# Altium footprint library pcb_Oscillator.PcbLib: 6 footprints
Each footprint in its own frame and in the unit in brackets; x right, y up, seen from the top. Pads: shape width x height; smd on the part's side, far side on the other; paste and mask are expansions set on the pad; w line width, h text height; cw(c..) or ccw(c..) is an arc to the next point about the centre after c.
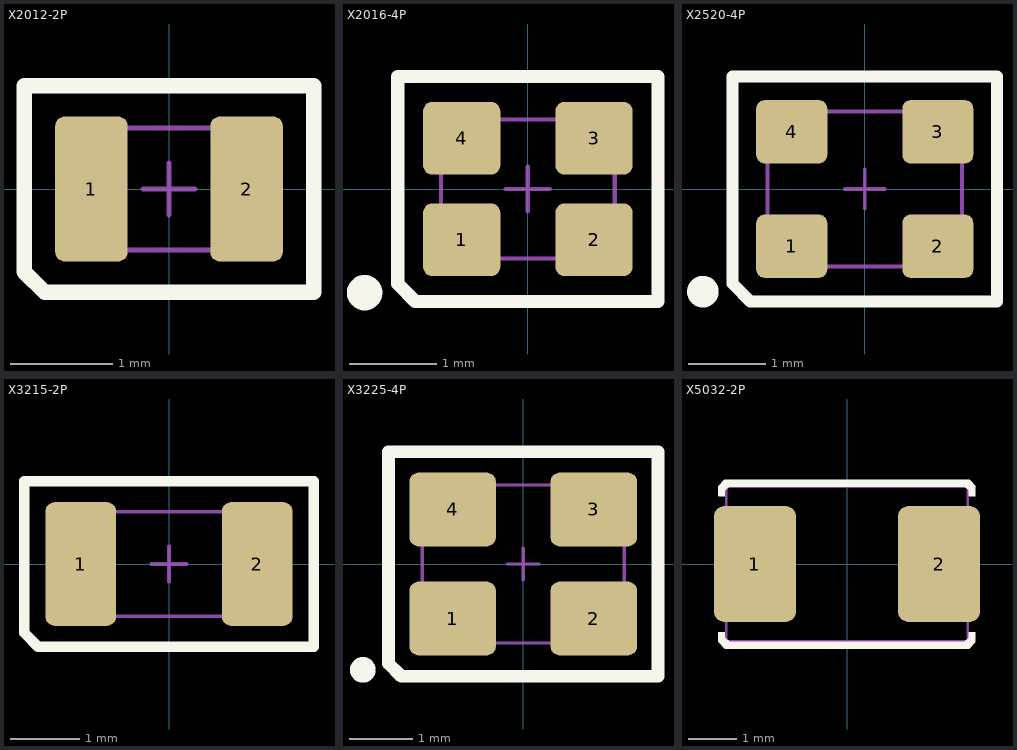
[diagram p0: the footprints below, top view; thin cyan lines are the x and y axes]

## X2012-2P [mil] "FC-12M"
height 25.59
pads (2):
  rrect25% 28x56 smd: 1(-30,0) 2(30,0)
Top Overlay:
  lines w6: -56,-32 -48,-40 56,-40 56,40 -56,40 -56,-32
Mechanical 13:
  lines w2: -10.01,0.01 9.99,0.01 ; 0,-10 0,10 ; -39.37,-23.62 -39.37,23.62 39.37,23.62 39.37,-23.62 -39.37,-23.62
Mechanical 14:
Mechanical 16:
  text ".Designator" at 0,0 h39.37
3D body "FC-12M.STEP": height 23.62, standoff -0.04, extent -40.35,-23.62 40.35,23.62

## X2016-4P [mil]
height 29.53
pads (4):
  rrect25% 35x33 smd: 1(-30,-23) 2(30,-23) 3(30,23) 4(-30,23)
Top Overlay:
  circle w10: c-74,-47 r3
  lines w6: -59,-43 -51,-51 59,-51 59,51 -59,51 -59,-43
Mechanical 13:
  lines w2: -10,-0.01 10,-0.01 ; -0.01,-10 -0.01,10 ; -39.37,-31.5 39.37,-31.5 39.37,31.5 -39.37,31.5 -39.37,-31.5
Mechanical 14:
Mechanical 16:
  text ".Designator" at 0,0 h39.37
3D body "User Library-NT2016SA-END4910A-48MHZ Crystal (NDK).STEP": height 27.56, standoff -0.04, extent -39.37,-31.5 39.37,31.49

## X2520-4P [mil]
height 29.53
pads (4):
  rrect25% 36x32 smd: 1(-37,-29) 2(37,-29) 3(37,29) 4(-37,29)
Top Overlay:
  circle w10: c-82,-52 r3
  lines w6: -67,-48 -58,-57 67,-57 67,57 -67,57 -67,-48
Mechanical 13:
  lines w2: -10,-0.01 10,-0.01 ; -0.01,-10 -0.01,10 ; -49.22,-39.37 -49.22,39.36 49.21,39.36 49.21,-39.37 -49.22,-39.37
Mechanical 16:
  text ".Designator" at 0,0 h39.37
3D body "User Library-Osc KC2520.STEP": height 31.1, standoff 0, extent -49.21,-39.37 49.21,39.37

## X3215-2P [mil]
height 25.59
pads (2):
  rrect25% 40x70 smd: 1(-50,0) 2(50,0)
Top Overlay:
  lines w6: -82,-39 -74,-47 82,-47 82,47 -82,47 -82,-39
Mechanical 13:
  lines w2: -10,0.01 10,0.01 ; 0.01,-10 0.01,10 ; -63,-29.51 -63,29.53 62.99,29.53 62.99,-29.51 -63,-29.51
Mechanical 16:
  text ".Designator" at 0,0 h39.37
3D body "User Library-ECX-31B.STEP": height 35.43, standoff 0, extent -63,-29.51 62.99,29.55

## X3225-4P [mil]
height 47.24
pads (4):
  rrect25% 54x46 smd mask+4: 1(-44,-34) 2(44,-34) 3(44,34) 4(-44,34)
Top Overlay:
  circle w10: c-100,-66 r3
  lines w8: -84,-62 -84,70 84,70 84,-70 -76,-70 -84,-62
Mechanical 13:
  lines w2: -10,0.01 10,0.01 ; 0.01,-10 0.01,10 ; -63,-49.21 62.99,-49.21 62.99,49.21 -63,49.21 -63,-49.21
Mechanical 16:
  text ".Designator" at 0,0 h39.37
3D body "User Library-SG310.STEP": height 41.34, standoff 0, extent -62.98,-49.21 63,49.21

## X5032-2P [mm]
height 1.2
pads (2):
  rrect25% 1.7x2.4 smd: 1(-1.905,0) 2(1.905,0)
Top Overlay:
  region: 2.654,-1.41 2.527,-1.41 2.527,-1.524 2.438,-1.613 -2.438,-1.613 -2.527,-1.524 -2.527,-1.41 -2.654,-1.41 -2.654,-1.613 -2.527,-1.74 2.527,-1.74 2.654,-1.613
  region: -2.654,1.41 -2.527,1.41 -2.527,1.524 -2.438,1.613 2.438,1.613 2.527,1.524 2.527,1.41 2.654,1.41 2.654,1.613 2.527,1.74 -2.527,1.74 -2.654,1.613
  lines w0.025: -2.654,-1.613 -2.527,-1.74 2.527,-1.74 2.654,-1.613 2.654,-1.41 2.527,-1.41 2.527,-1.524 2.438,-1.613 -2.438,-1.613 -2.527,-1.524 -2.527,-1.41 -2.654,-1.41 -2.654,-1.613 ; -2.654,1.41 -2.527,1.41 -2.527,1.524 -2.438,1.613 2.438,1.613 2.527,1.524 2.527,1.41 2.654,1.41 2.654,1.613 2.527,1.74 -2.527,1.74 -2.654,1.613 -2.654,1.41
Mechanical 13:
  lines w0.051: -2.5,-1.6 -2.5,1.6 2.5,1.6 2.5,-1.6 2.5,-1.6 -2.5,-1.6
Mechanical 16:
  text ".Designator" at 0,0 h1
3D body "User Library-CRYSTALSMD5X32.STEP": height 1, standoff 0, extent -2.5,-1.6 2.5,1.6